# Altium schematic symbol library AD8065ARTZ-REEL7.SchLib: 1 symbol
Pins are listed as number, name and electrical type; pins without a type are passive.

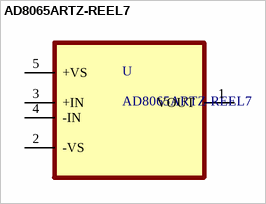
[diagram p0: symbol AD8065ARTZ-REEL7]

## AD8065ARTZ-REEL7
designator U
Voltage Feedback Amplifier 1 Circuit Rail-to-Rail SOT-23-5; MF: Analog Devices; Price: None; Package: SOT-23-5 Analog Devices; Value: AD8065ARTZ-REEL7; MP: AD8065ARTZ-REEL7; DigiKey-Purchase-URL: https://snapeda.com/shop?store=DigiKey&id=385700; SnapEDA_Link: https://www.snapeda.com/parts/AD8065ARTZ-REEL7/Analog%20Devices%20Inc./view-part/385700/?ref=snap; Availability: Unavailable
footprint SOT95P290X145-5N
pins: 1 VOUT, 2 -VS (power), 3 +IN, 4 -IN, 5 +VS (power)